# EAGLE library part 6_PIN_SERIAL_TARGET (library Hexellence-Connectors)
6-pin header connection for use with the "FTDI BASIC" pinout - TARGET SIDE. Also known as "Arduino Serial Program Header". It is used to mate with our FTDI Basic serial programmers using the Arduino IDE. Note, this device has "TARGET" in the name. It is intended to be used on a design that contains a target micro-controller that you wish to program. The "sister" device, named "CABLE" is inteneded to be used on a design that usually lives on the end of your USB cable and prvides the converter chip (FTDI232 or FTDI231x) to commnicate serial RX/TX. You can populate with some of these: Break Away Headers - Straight <https://www.sparkfun.com/products/116> (PRT-00116) For reference (or to suit your programming needs) check out these designs: SparkFun FTDI Basic Breakout - 5V <https://www.sparkfun.com/products/9716> (DEV-09716) SparkFun FTDI Basic Breakout - 3.3V <https://www.sparkfun.com/products/9873> (DEV-09873) SparkFun FTDI SmartBasic <https://www.sparkfun.com/products/12935> (DEV-12935) SparkFun Beefy 3 - FTDI Basic Breakout <https://www.sparkfun.com/products/13746> (DEV-13746)
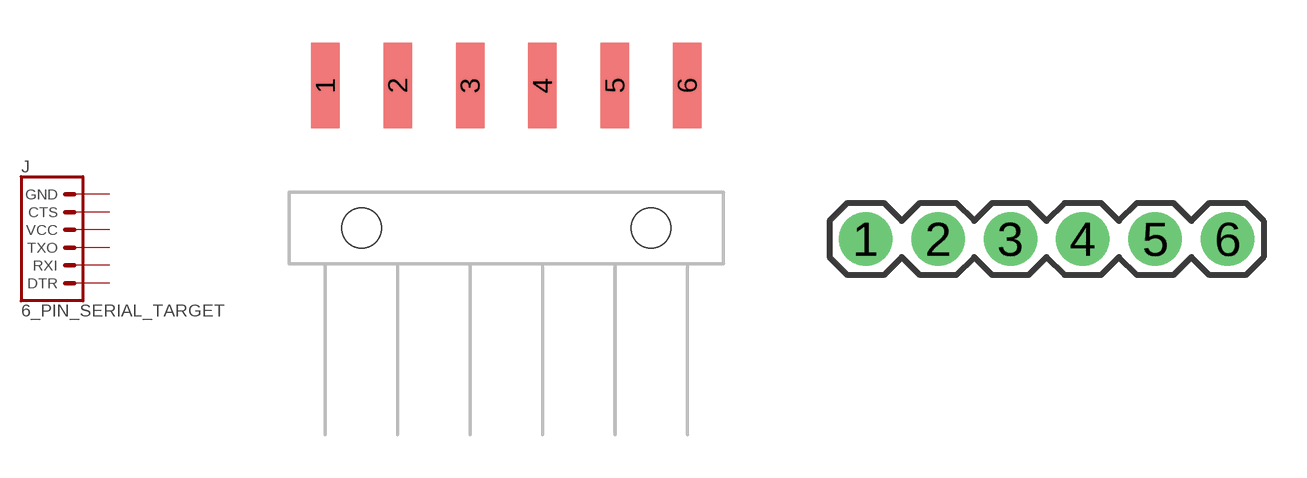
[diagram p0: symbol with the pads of 1X06-SMD_RA_MALE; footprints 1X06-SMD_RA_MALE, 1X06]

Designator prefix J

## 6_PIN_SERIAL_TARGETSMD (PROD_ID: CONN-08971)  [1X06-SMD_RA_MALE]
1  DTR  pas
2  RXI  pas
3  TXO  pas
4  VCC  pas
5  CTS  pas
6  GND  pas

## 6_PIN_SERIAL_TARGET  [1X06]
Pads as for 1X06-SMD_RA_MALE

## 6_PIN_SERIAL_TARGETRA_LOCK  [MOLEX_1X6_RA_LOCK]
1  GND  pas
2  CTS  pas
3  VCC  pas
4  TXO  pas
5  RXI  pas
6  DTR  pas

## 6_PIN_SERIAL_TARGETLONGPADS  [1X06_LONGPADS]
Pads as for 1X06-SMD_RA_MALE

## 6_PIN_SERIAL_TARGETLOCK  [1X06_LOCK]
Pads as for 1X06-SMD_RA_MALE

## 6_PIN_SERIAL_TARGETPTH-KIT  [1X06-KIT]
Pads as for 1X06-SMD_RA_MALE

## 6_PIN_SERIAL_TARGETSILK  [6_PIN_SERIAL_TARGET_SIDE_W_SILK]
P$1  DTR  pas
P$2  TXO  pas
P$3  RXI  pas
P$4  VCC  pas
P$5  CTS  pas
P$6  GND  pas

## 6_PIN_SERIAL_TARGETRA_SMT (PROD_ID: CONN-08971)  [6_PIN_SERIAL_TARGET_SIDE_RA_SMT]
1  DTR  pas
2  TXO  pas
3  RXI  pas
4  VCC  pas
5  CTS  pas
6  GND  pas

## Footprint 1X06-SMD_RA_MALE (pad centres in mm)
SMD - 6 Pin Right Angle Male Header tDocu layer shows pin locations. Specifications: Pin count:6 Pin pitch:0.1" Example device(s): CONN_06
smd 1 x 3: 1 -6.35,5; 2 -3.81,5; 3 -1.27,5; 4 1.27,5; 5 3.81,5; 6 6.35,5
hole 1.4 at -5.08,0
hole 1.4 at 5.08,0

## Footprint 1X06 (pad centres in mm)
Plated Through Hole - 6 Pin Specifications: Pin count:6 Pin pitch:0.1" Example device(s): CONN_06
drill 1.016 pad 1.88: 1 0,0; 2 2.54,0; 3 5.08,0; 4 7.62,0; 5 10.16,0; 6 12.7,0

## Footprint MOLEX_1X6_RA_LOCK (pad centres in mm)
Molex 6-Pin Plated Through-Hole Right Angle Locking Footprint Holes are offset 0.005" from center to hold pins in place during soldering. tPlace shows location of connector. Specifications: Pin count:6 Pin pitch:0.1" Datasheet referenced for footprint <https://www.sparkfun.com/datasheets/Prototyping/2pin_molex_set_19iv10.pdf> Example device(s): CONN_06
drill 1.016 pad 1.88: 1 0,0.127; 2 2.54,-0.127; 3 5.08,0.127; 4 7.62,-0.127; 5 10.16,0.127; 6 12.7,-0.127

## Footprint 1X06_LONGPADS (pad centres in mm)
Plated Through Hole - 6 Pin with Long Pads Specifications: Pin count:6 Pin pitch:0.1" Example device(s): CONN_06
drill 1.118 pad 1.88 long: 1 0,0; 2 2.54,0; 3 5.08,0; 4 7.62,0; 5 10.16,0; 6 12.7,0

## Footprint 1X06_LOCK (pad centres in mm)
Plated Through Hole - 6 Pin with Locking Footprint Holes are offset 0.005" from center, locking pins in place during soldering. Specifications: Pin count:6 Pin pitch:0.1" Example device(s): CONN_06
drill 1.016 pad 1.88: 1 0,0; 2 2.54,-0.254; 3 5.08,0; 4 7.62,-0.254; 5 10.16,0; 6 12.7,-0.254

## Footprint 1X06-KIT (pad centres in mm)
Plated Through Hole - 6 Pin KIT This is the KIT version of this package. This package has a smaller diameter top stop mask, which doesn't cover the diameter of the pad. This means only the bottom side of the pads' copper will be exposed. You'll only be able to solder to the bottom side. Specifications: Pin count:6 Pin pitch:0.1" Example device(s): CONN_06
drill 1.016 pad 1.88: 1 0,0; 2 2.54,0; 3 5.08,0; 4 7.62,0; 5 10.16,0; 6 12.7,0

## Footprint 6_PIN_SERIAL_TARGET_SIDE_W_SILK (pad centres in mm)
6 pin Serial Target - Right Angle SMT with Silk Package for devices meant to mate to an FTDI connector. Specifications: Pin count:6 Pin pitch: 0.1" Example device(s): 6_Pin_Serial_Target
drill 1.016 pad 1.88: P$1 -6.35,0; P$2 -3.81,0; P$3 -1.27,0; P$4 1.27,0; P$5 3.81,0; P$6 6.35,0

## Footprint 6_PIN_SERIAL_TARGET_SIDE_RA_SMT (pad centres in mm)
6 pin Serial Target - Right Angle SMT Package for devices meant to mate to an FTDI connector. tDocu shows pin location. Specifications: Pin count:6 Pin pitch: 0.1" Example device(s): 6_Pin_Serial_Target
smd 1 x 3: 1 -6.35,5; 2 -3.81,5; 3 -1.27,5; 4 1.27,5; 5 3.81,5; 6 6.35,5
hole 1.4 at -5.08,0
hole 1.4 at 5.08,0